# Altium schematic symbol library SCH_Oscillator.SchLib: 7 symbols
Pins are listed as number, name and electrical type; pins without a type are passive.

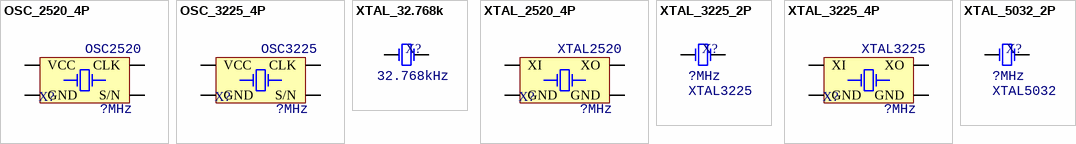
[diagram p0: symbols OSC_2520_4P to XTAL_5032_2P]

## OSC_2520_4P
designator X?, comment Type: OSC2520  (hidden comment: ?MHz)
Crystal Oscillator; Value: ?MHz
footprint XT_2520_4
pins: 1 S/N, 2 GND, 3 CLK, 4 VCC

## OSC_3225_4P
designator X?, comment Type: OSC3225  (hidden comment: ?MHz)
Crystal Oscillator; Value: ?MHz
footprint XT_3225_4
footprint OSC_2520
pins: 1 S/N, 2 GND, 3 CLK, 4 VCC

## XTAL_32.768k
designator X?, comment 32.768kHz
Crystal Oscillator; Value: 32.768kHz
footprint XT_8038_4
footprint XT_3215_2
footprint XT_2012_2
footprint MC-146
pins: 1 OSC1, 2 OSC2

## XTAL_2520_4P
designator X?, comment Type: XTAL2520  (hidden comment: ?MHz)
Crystal Oscillator; Value: ?MHz
footprint XT_2520_4
pins: 1 XI, 2 GND, 3 XO, 4 GND

## XTAL_3225_2P
designator X?, comment Type: XTAL3225  (hidden comment: ?MHz)
Crystal Oscillator; Value: ?MHz
footprint XT_3225_2
pins: 1 OSC1, 2 OSC2

## XTAL_3225_4P
designator X?, comment Type: XTAL3225  (hidden comment: ?MHz)
Crystal Oscillator; Value: ?MHz
footprint XT_3225_4
pins: 1 XI, 2 GND, 3 XO, 4 GND

## XTAL_5032_2P
designator X?, comment Type: XTAL5032  (hidden comment: ?MHz)
Crystal Oscillator; Value: ?MHz
footprint XT_5032_2
pins: 1 OSC1, 2 OSC2